# EAGLE library part HEXABIT_17.32_TOP_HALF (library hexabitz_connectors)
Hexabitz Hexagon Module Connector Hexagon side length = 17.32mm.
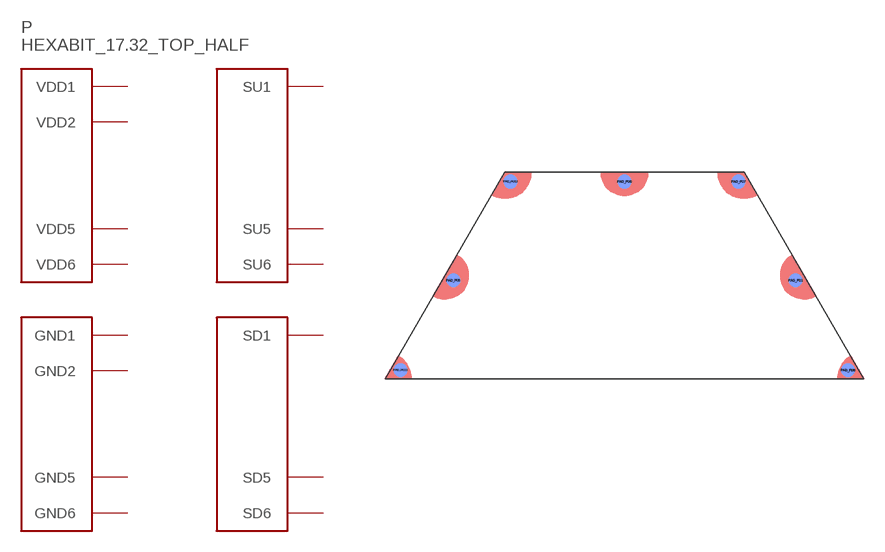
[diagram p0: symbol with the pads of HEXABIT_17.32_TOP_HALF; footprint HEXABIT_17.32_TOP_HALF]

Designator prefix P

## HEXABIT_17.32_TOP_HALF  [HEXABIT_17.32_TOP_HALF]
PAD_PD1  SD1
PAD_PD5  SD5
PAD_PD6  SD6
PAD_PD7  GND1  pwr
PAD_PD8  GND2  pwr
PAD_PD11  GND5  pwr
PAD_PD12  GND6  pwr
PAD_PU1  SU1
PAD_PU5  SU5
PAD_PU6  SU6
PAD_PU7  VDD1  pwr
PAD_PU8  VDD2  pwr
PAD_PU11  VDD5  pwr
PAD_PU12  VDD6  pwr

## Footprint HEXABIT_17.32_TOP_HALF (pad centres in mm)
smd 1 x 1 bottom: PAD_PD1 12.39,7.15; PAD_PD5 -12.39,7.15; PAD_PD6 0,14.31; PAD_PD7 8.26,14.31; PAD_PD8 16.19,0.635; PAD_PD11 -16.215,0.66; PAD_PD12 -8.26,14.31
smd 1 x 1: PAD_PU1 12.39,7.15; PAD_PU5 -12.39,7.15; PAD_PU6 0,14.31; PAD_PU7 8.26,14.31; PAD_PU8 16.164,0.66; PAD_PU11 -16.215,0.66; PAD_PU12 -8.26,14.31